# Altium integrated library PCA9546ADGV.IntLib: 2 symbols
Pins are listed as number, name and electrical type; pins without a type are passive.

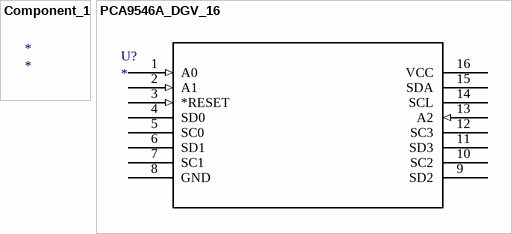
[diagram p0: symbols Component_1 to PCA9546A_DGV_16]

## Component_1
designator *

## PCA9546A_DGV_16
designator U?
Imported; Manufacturer: Texas Instruments; GENERIC_PART_NUMBER: PCA9546A; Manufacturer_Part_Number: pca9546a_dgv_16; INDUSTRY_STD_PKG_TYPE: TVSOP; FAMILY_NAME: I2C MULTIPLEXER, SWITCH; PIN_COUNT: 16; PACKAGE_DESIGNATOR: DGV; Datasheet URL: http://www.ti.com/lit/gpn/PCA9546A; Vendor: Texas Instruments; RefDes: RefDes; Type: DEV; Value: Value
footprint DGV16
pins: 1 A0 (in), 2 A1 (in), 3 *RESET (in), 4 SD0, 5 SC0, 6 SD1, 7 SC1, 8 GND (power), 9 SD2, 10 SC2, 11 SD3, 12 SC3, 13 A2 (in), 14 SCL, 15 SDA, 16 VCC (power)